# Altium footprint library MAGJACKA70112331N126.PcbLib: 1 footprints
Each footprint in its own frame and in the unit in brackets; x right, y up, seen from the top. Pads: shape width x height; smd on the part's side, far side on the other; paste and mask are expansions set on the pad; w line width, h text height; cw(c..) or ccw(c..) is an arc to the next point about the centre after c.
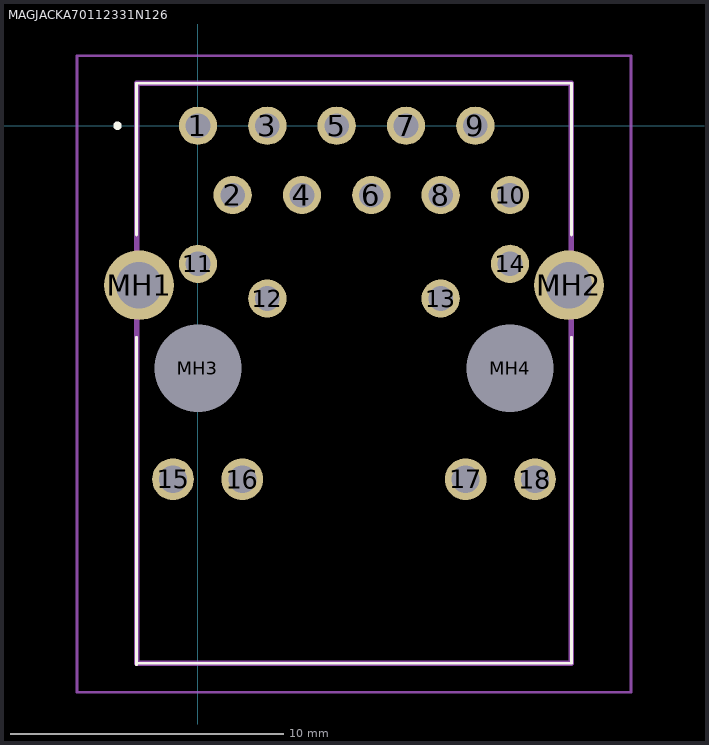
[diagram p0: the footprint, top view; thin cyan lines are the x and y axes]

## MAGJACKA70112331N126 [mm]
pads (22):
  round 1.4 hole 0.9: 1(0,0) 2(1.27,-2.54) 3(2.54,0) 4(3.81,-2.54) 5(5.08,0) 6(6.35,-2.54) 7(7.62,0) 8(8.89,-2.54) 9(10.16,0) 10(11.43,-2.54) 11(0,-5.06) 12(2.54,-6.33) 13(8.89,-6.33) 14(11.43,-5.06)
  round 1.53 hole 1.02: 15(-0.915,-12.95) 16(1.625,-12.95) 17(9.805,-12.95) 18(12.345,-12.95)
  round 2.55 hole 1.7: MH1(-2.16,-5.84) MH2(13.59,-5.84)
  round 1.6 hole 3.2 unplated: MH3(0,-8.89) MH4(11.43,-8.89)
Top Overlay:
  lines w0.1: -2.25,1.56 -2.25,-4 -2.25,1.56 ; -2.25,1.56 13.68,1.56 ; -2.25,1.56 13.68,1.56 ; 13.68,-19.69 13.68,-7.75 13.68,-19.69 ; 13.68,-19.69 -2.25,-19.69 13.68,-19.69 ; 13.68,1.56 13.68,-4 13.68,1.56 ; -2.25,-19.75 -2.25,-7.75 -2.25,-19.75
  lines w0.2: -3,0 ccw(c-2.95,0) -2.9,0 ; -3,0 cw(c-2.95,0) -2.9,0 ; -3,0 ccw(c-2.95,0) -2.9,0
Mechanical 15:
  lines w0.2: -2.25,-19.69 -2.25,1.56 13.68,1.56 13.68,-19.69 -2.25,-19.69
Mechanical 20:
  lines w0.1: -4.435,-20.75 -4.435,2.56 15.865,2.56 15.865,-20.75 -4.435,-20.75
3D body "MAGJACK-A70-112-331N126.stp": height 13.4, standoff -5, extent -2.91,-19.69 14.34,1.56